# Altium schematic symbol library GateDrivers.SchLib: 1 symbol
Pins are listed as number, name and electrical type; pins without a type are passive.

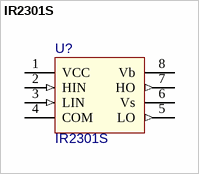
[diagram p0: symbol IR2301S]

## IR2301S
designator U?
HIGH AND LOW SIDE DRIVER; Value: IR2301S
footprint SO-8_N (Footprint not found)
pins: 1 VCC (power), 2 HIN (in), 3 LIN (in), 4 COM (power), 5 LO (out), 6 Vs, 7 HO (out), 8 Vb